# EAGLE library part UCC3913P (library wheat)
IC, HOTSWAP, UCC3913, DIP8
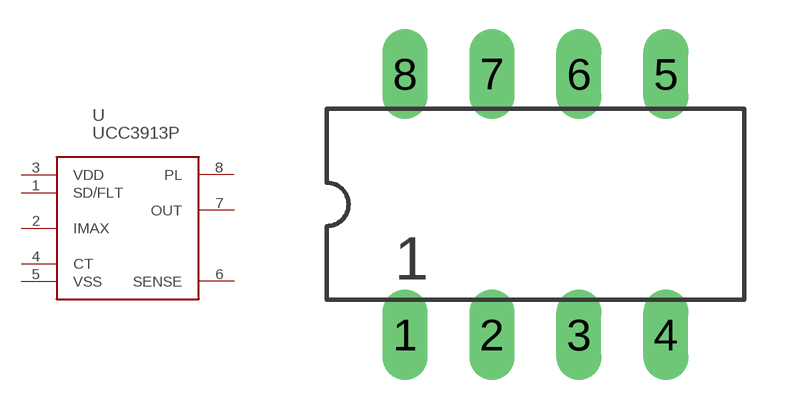
[diagram p52: symbol with the pads of DIP8; footprint DIP8]

Designator prefix U

## UCC3913P  [DIP8]
1  SD/FLT
2  IMAX
3  VDD
4  CT
5  VSS
6  SENSE
7  OUT
8  PL

## Footprint DIP8 (pad centres in mm)
DIP8 .300 centers
drill 0.813 long: 1 0,0; 2 2.54,0; 3 5.08,0; 4 7.62,0; 5 7.62,7.62; 6 5.08,7.62; 7 2.54,7.62; 8 0,7.62